# Altium integrated library Microchip Linear Devices.IntLib: 674 symbols (part 9 of 18)
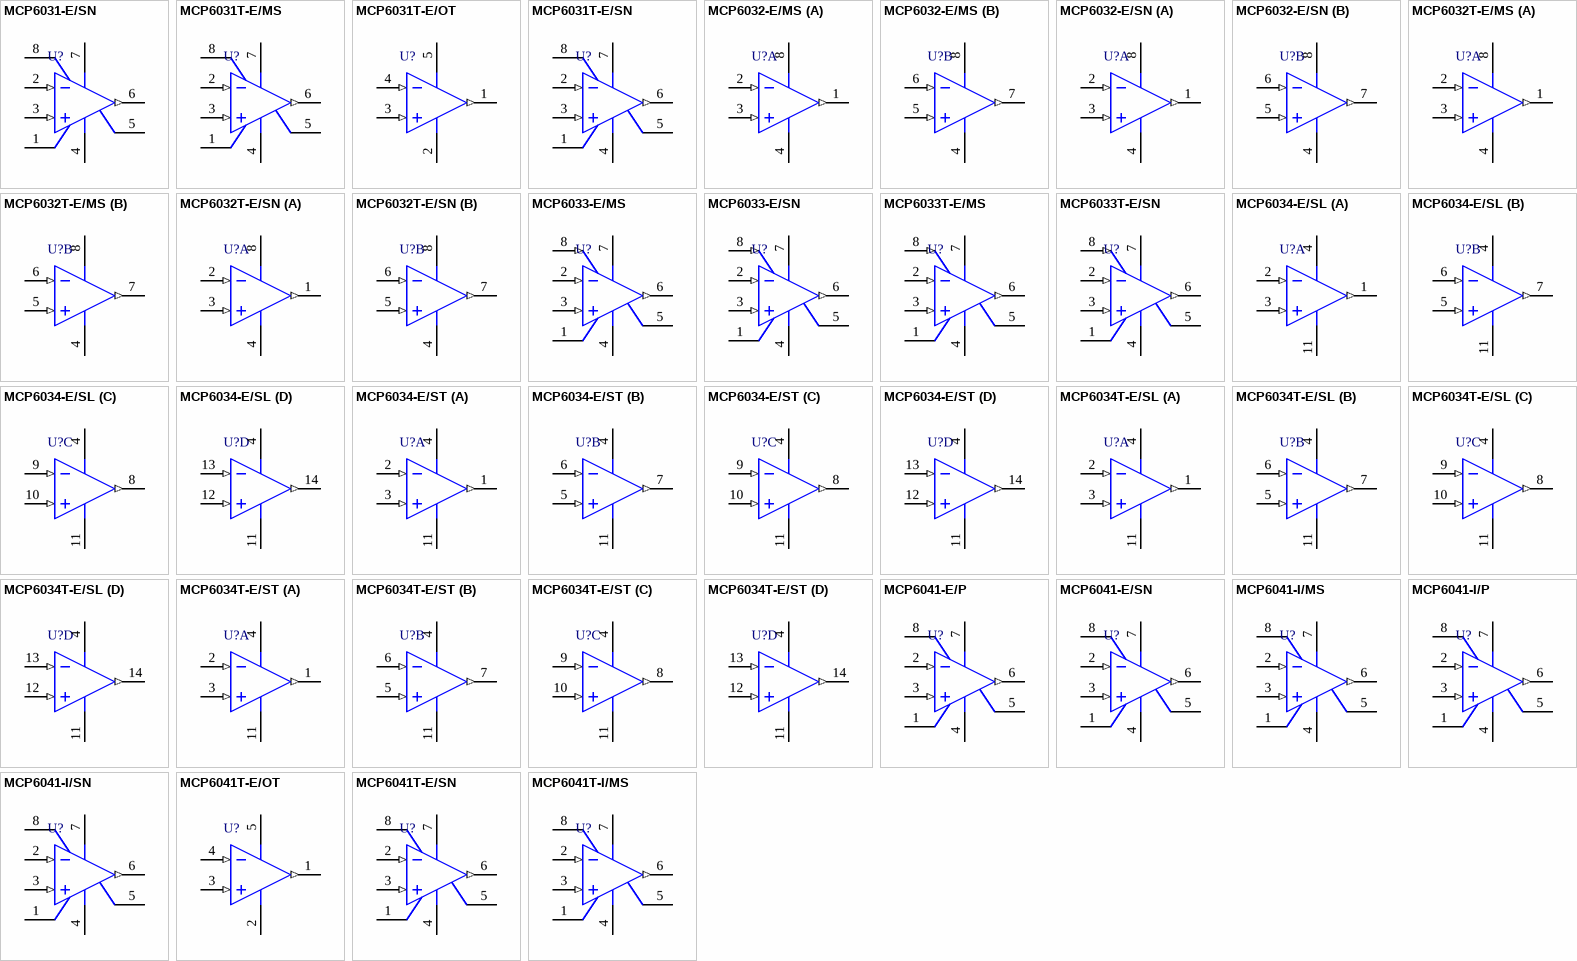
[diagram p39: symbols MCP6031-E/SN to MCP6041T-I/MS]

## MCP6041-I/P
designator U?
600 nA, Rail-to-Rail Input/Output Operational Amplifier, 8-Pin PDIP, Industrial Temperature; Published: 29-Jan-2009; DatasheetVersion: revC, Feb-2008; PackageVersion: revBB, Aug-2009; PackageReference: PDIP300-P8; Publisher: Altium Limited; PackageDescription: 8-Lead Plastic Dual In-Line (P) - 300 mil Body [PDIP]; Supplier 1: Digi-Key; Supplier Part Number 1: MCP6041-I/P-ND; Supplier 2: Farnell; Supplier Part Number 2: 9758682; Code_JEDEC: MS-001; ComponentLink1Description: Datasheet; ComponentLink1URL: http://ww1.microchip.com/downloads/en/DeviceDoc/21669c.pdf; ComponentLink2Description: Packaging Specification; ComponentLink2URL: http://www.microchip.com/stellent/groups/techpub_sg/documents/packagingspec/en012702.pdf; ComponentLink3Description: Microchip.com Home; ComponentLink3URL: http://www.microchip.com/
footprint PDIP300-P8 (DIP, 8-Leads, Row Spacing 7.62mm, Pitch 2.54mm, Body 9.5x6.6mm)
simulation model MCP6041 (SUBCKT)
pins: 1 NC, 2 VIN- (in), 3 VIN+ (in), 4 VSS (power), 5 NC, 6 VOUT (out), 7 VDD (power), 8 NC

## MCP6041-I/SN
designator U?
600 nA, Rail-to-Rail Input/Output Operational Amplifier, 8-Pin SOIC, Industrial Temperature; Published: 29-Jan-2009; DatasheetVersion: revC, Feb-2008; PackageVersion: revBB, Aug-2009; PackageReference: SOIC-SN8; Publisher: Altium Limited; PackageDescription: 8-Lead Plastic Small Outline (SN) - Narrow, 3.90mm Body [SOIC]; Supplier 1: Digi-Key; Supplier Part Number 1: MCP6041-I/SN-ND; Supplier 2: Farnell; Supplier Part Number 2: 1084311; Code_JEDEC: MS-012; Code_IPC: SOIC127P600-8; ComponentLink1Description: Datasheet; ComponentLink1URL: http://ww1.microchip.com/downloads/en/DeviceDoc/21669c.pdf; ComponentLink2Description: Packaging Specification; ComponentLink2URL: http://www.microchip.com/stellent/groups/techpub_sg/documents/packagingspec/en012702.pdf; ComponentLink3Description: Microchip.com Home; ComponentLink3URL: http://www.microchip.com/
footprint SOIC-SN8_N (SOIC, 8-Leads, Body 4.9x3.8mm, Pitch 1.27mm, IPC Medium Density)
footprint SOIC-SN8_L (SOIC, 8-Leads, Body 4.9x3.8mm, Pitch 1.27mm, IPC High Density)
footprint SOIC-SN8_M (SOIC, 8-Leads, Body 4.9x3.8mm, Pitch 1.27mm, IPC Low Density)
simulation model MCP6041 (SUBCKT)
pins: 1 NC, 2 VIN- (in), 3 VIN+ (in), 4 VSS (power), 5 NC, 6 VOUT (out), 7 VDD (power), 8 NC

## MCP6041T-E/OT
designator U?
600 nA, Rail-to-Rail Input/Output Operational Amplifier, 5-Pin SOT-23, Extended Temperature, Tape and Reel; Published: 29-Jan-2009; DatasheetVersion: revC, Feb-2008; PackageVersion: revBB, Aug-2009; PackageReference: SOT-23-OT5; Publisher: Altium Limited; PackageDescription: 5-Lead Plastic Small Outline Transistor (OT) [SOT-23]; Supplier 1: Digi-Key; Supplier Part Number 1: MCP6041T-E/OTTR-ND; Supplier 2: Digi-Key; Supplier Part Number 2: MCP6041T-E/OTCT-ND; Supplier 3: Digi-Key; Supplier Part Number 3: MCP6041T-E/OTDKR-ND; Code_IPC: SOT23-5; ComponentLink1Description: Datasheet; ComponentLink1URL: http://ww1.microchip.com/downloads/en/DeviceDoc/21669c.pdf; ComponentLink2Description: Packaging Specification; ComponentLink2URL: http://www.microchip.com/stellent/groups/techpub_sg/documents/packagingspec/en012702.pdf; ComponentLink3Description: Microchip.com Home; ComponentLink3URL: http://www.microchip.com/
footprint SOT-23-OT5_N (SOT23, 5-Leads, Body 2.9x1.6mm, Pitch 0.95mm, Lead Span 2.7mm, IPC Medium Density)
footprint SOT-23-OT5_L (SOT23, 5-Leads, Body 2.9x1.6mm, Pitch 0.95mm, Lead Span 2.7mm, IPC High Density)
footprint SOT-23-OT5_M (SOT23, 5-Leads, Body 2.9x1.6mm, Pitch 0.95mm, Lead Span 2.7mm, IPC Low Density)
simulation model MCP6041 (SUBCKT)
pins: 1 VOUT (out), 2 VSS (power), 3 VIN+ (in), 4 VIN- (in), 5 VDD (power)

## MCP6041T-E/SN
designator U?
600 nA, Rail-to-Rail Input/Output Operational Amplifier, 8-Pin SOIC, Extended Temperature, Tape and Reel; Published: 29-Jan-2009; DatasheetVersion: revC, Feb-2008; PackageVersion: revBB, Aug-2009; PackageReference: SOIC-SN8; Publisher: Altium Limited; PackageDescription: 8-Lead Plastic Small Outline (SN) - Narrow, 3.90mm Body [SOIC]; Supplier 1: Digi-Key; Supplier Part Number 1: MCP6041T-E/SN-ND; Code_JEDEC: MS-012; Code_IPC: SOIC127P600-8; ComponentLink1Description: Datasheet; ComponentLink1URL: http://ww1.microchip.com/downloads/en/DeviceDoc/21669c.pdf; ComponentLink2Description: Packaging Specification; ComponentLink2URL: http://www.microchip.com/stellent/groups/techpub_sg/documents/packagingspec/en012702.pdf; ComponentLink3Description: Microchip.com Home; ComponentLink3URL: http://www.microchip.com/
footprint SOIC-SN8_N (SOIC, 8-Leads, Body 4.9x3.8mm, Pitch 1.27mm, IPC Medium Density)
footprint SOIC-SN8_L (SOIC, 8-Leads, Body 4.9x3.8mm, Pitch 1.27mm, IPC High Density)
footprint SOIC-SN8_M (SOIC, 8-Leads, Body 4.9x3.8mm, Pitch 1.27mm, IPC Low Density)
simulation model MCP6041 (SUBCKT)
pins: 1 NC, 2 VIN- (in), 3 VIN+ (in), 4 VSS (power), 5 NC, 6 VOUT (out), 7 VDD (power), 8 NC

## MCP6041T-I/MS
designator U?
600 nA, Rail-to-Rail Input/Output Operational Amplifier, 8-Pin MSOP, Industrial Temperature, Tape and Reel; Published: 29-Jan-2009; DatasheetVersion: revC, Feb-2008; PackageVersion: revBB, Aug-2009; PackageReference: MSOP-MS8; Publisher: Altium Limited; PackageDescription: 8-Lead Plastic Micro Small Outline Package (MS) [MSOP]; Supplier 1: Digi-Key; Supplier Part Number 1: MCP6041T-I/MSTR-ND; Supplier 2: Digi-Key; Supplier Part Number 2: MCP6041T-I/MSCT-ND; Supplier 3: Digi-Key; Supplier Part Number 3: MCP6041T-I/MSDKR-ND; ComponentLink1Description: Datasheet; ComponentLink1URL: http://ww1.microchip.com/downloads/en/DeviceDoc/21669c.pdf; ComponentLink2Description: Packaging Specification; ComponentLink2URL: http://www.microchip.com/stellent/groups/techpub_sg/documents/packagingspec/en012702.pdf; ComponentLink3Description: Microchip.com Home; ComponentLink3URL: http://www.microchip.com/
footprint MSOP-MS8_N (TSOP, 8-Leads, Body 3x3mm, Pitch 0.65mm, IPC Medium Density)
footprint MSOP-MS8_L (TSOP, 8-Leads, Body 3x3mm, Pitch 0.65mm, IPC High Density)
footprint MSOP-MS8_M (TSOP, 8-Leads, Body 3x3mm, Pitch 0.65mm, IPC Low Density)
simulation model MCP6041 (SUBCKT)
pins: 1 NC, 2 VIN- (in), 3 VIN+ (in), 4 VSS (power), 5 NC, 6 VOUT (out), 7 VDD (power), 8 NC

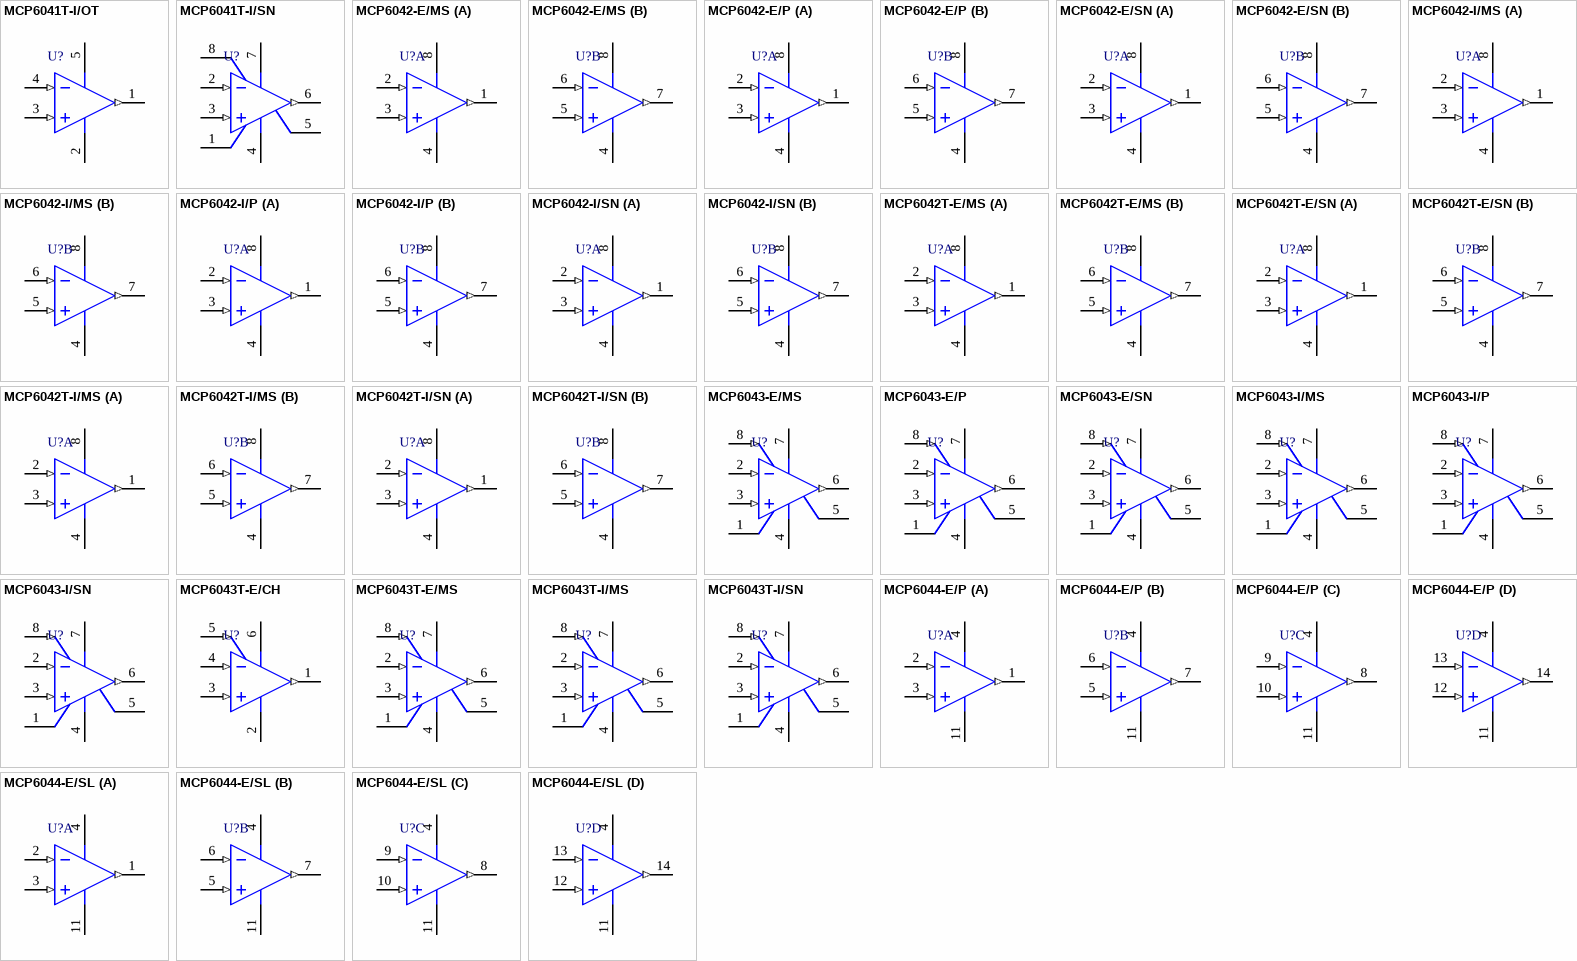
[diagram p14: symbols MCP6041T-I/OT to MCP6044-E/SL]

## MCP6041T-I/OT
designator U?
600 nA, Rail-to-Rail Input/Output Operational Amplifier, 5-Pin SOT-23, Industrial Temperature, Tape and Reel; Published: 29-Jan-2009; DatasheetVersion: revC, Feb-2008; PackageVersion: revBB, Aug-2009; PackageReference: SOT-23-OT5; Publisher: Altium Limited; PackageDescription: 5-Lead Plastic Small Outline Transistor (OT) [SOT-23]; Supplier 1: Digi-Key; Supplier Part Number 1: MCP6041T-I/OTTR-ND; Supplier 2: Digi-Key; Supplier Part Number 2: MCP6041T-I/OTCT-ND; Supplier 3: Digi-Key; Supplier Part Number 3: MCP6041T-I/OTDKR-ND; Supplier 4: Farnell; Supplier Part Number 4: 1332129; Code_IPC: SOT23-5; ComponentLink1Description: Datasheet; ComponentLink1URL: http://ww1.microchip.com/downloads/en/DeviceDoc/21669c.pdf; ComponentLink2Description: Packaging Specification; ComponentLink2URL: http://www.microchip.com/stellent/groups/techpub_sg/documents/packagingspec/en012702.pdf; ComponentLink3Description: Microchip.com Home; ComponentLink3URL: http://www.microchip.com/
footprint SOT-23-OT5_N (SOT23, 5-Leads, Body 2.9x1.6mm, Pitch 0.95mm, Lead Span 2.7mm, IPC Medium Density)
footprint SOT-23-OT5_L (SOT23, 5-Leads, Body 2.9x1.6mm, Pitch 0.95mm, Lead Span 2.7mm, IPC High Density)
footprint SOT-23-OT5_M (SOT23, 5-Leads, Body 2.9x1.6mm, Pitch 0.95mm, Lead Span 2.7mm, IPC Low Density)
simulation model MCP6041 (SUBCKT)
pins: 1 VOUT (out), 2 VSS (power), 3 VIN+ (in), 4 VIN- (in), 5 VDD (power)

## MCP6041T-I/SN
designator U?
600 nA, Rail-to-Rail Input/Output Operational Amplifier, 8-Pin SOIC, Industrial Temperature, Tape and Reel; Published: 29-Jan-2009; DatasheetVersion: revC, Feb-2008; PackageVersion: revBB, Aug-2009; PackageReference: SOIC-SN8; Publisher: Altium Limited; PackageDescription: 8-Lead Plastic Small Outline (SN) - Narrow, 3.90mm Body [SOIC]; Supplier 1: Digi-Key; Supplier Part Number 1: MCP6041T-I/SNTR-ND; Supplier 2: Digi-Key; Supplier Part Number 2: MCP6041T-I/SNCT-ND; Supplier 3: Digi-Key; Supplier Part Number 3: MCP6041T-I/SNDKR-ND; Code_JEDEC: MS-012; Code_IPC: SOIC127P600-8; ComponentLink1Description: Datasheet; ComponentLink1URL: http://ww1.microchip.com/downloads/en/DeviceDoc/21669c.pdf; ComponentLink2Description: Packaging Specification; ComponentLink2URL: http://www.microchip.com/stellent/groups/techpub_sg/documents/packagingspec/en012702.pdf; ComponentLink3Description: Microchip.com Home; ComponentLink3URL: http://www.microchip.com/
footprint SOIC-SN8_N (SOIC, 8-Leads, Body 4.9x3.8mm, Pitch 1.27mm, IPC Medium Density)
footprint SOIC-SN8_L (SOIC, 8-Leads, Body 4.9x3.8mm, Pitch 1.27mm, IPC High Density)
footprint SOIC-SN8_M (SOIC, 8-Leads, Body 4.9x3.8mm, Pitch 1.27mm, IPC Low Density)
simulation model MCP6041 (SUBCKT)
pins: 1 NC, 2 VIN- (in), 3 VIN+ (in), 4 VSS (power), 5 NC, 6 VOUT (out), 7 VDD (power), 8 NC

## MCP6042-E/MS
designator U?
600 nA, Rail-to-Rail Input/Output Operational Amplifier, 8-Pin MSOP, Extended Temperature; Published: 29-Jan-2009; DatasheetVersion: revC, Feb-2008; PackageVersion: revBB, Aug-2009; PackageReference: MSOP-MS8; Publisher: Altium Limited; PackageDescription: 8-Lead Plastic Micro Small Outline Package (MS) [MSOP]; Supplier 1: Digi-Key; Supplier Part Number 1: MCP6042-E/MS-ND; ComponentLink1Description: Datasheet; ComponentLink1URL: http://ww1.microchip.com/downloads/en/DeviceDoc/21669c.pdf; ComponentLink2Description: Packaging Specification; ComponentLink2URL: http://www.microchip.com/stellent/groups/techpub_sg/documents/packagingspec/en012702.pdf; ComponentLink3Description: Microchip.com Home; ComponentLink3URL: http://www.microchip.com/
footprint MSOP-MS8_N (TSOP, 8-Leads, Body 3x3mm, Pitch 0.65mm, IPC Medium Density)
footprint MSOP-MS8_L (TSOP, 8-Leads, Body 3x3mm, Pitch 0.65mm, IPC High Density)
footprint MSOP-MS8_M (TSOP, 8-Leads, Body 3x3mm, Pitch 0.65mm, IPC Low Density)
simulation model MCP6041 (SUBCKT)
pins on every part: 4 VSS (power), 8 VDD (power)
part A pins: 1 VOUTA (out), 2 VINA- (in), 3 VINA+ (in)
part B pins: 5 VINB+ (in), 6 VINB- (in), 7 VOUTB (out)

## MCP6042-E/P
designator U?
600 nA, Rail-to-Rail Input/Output Operational Amplifier, 8-Pin PDIP, Extended Temperature; Published: 29-Jan-2009; DatasheetVersion: revC, Feb-2008; PackageVersion: revBB, Aug-2009; PackageReference: PDIP300-P8; Publisher: Altium Limited; PackageDescription: 8-Lead Plastic Dual In-Line (P) - 300 mil Body [PDIP]; Supplier 1: Digi-Key; Supplier Part Number 1: MCP6042-E/P-ND; Code_JEDEC: MS-001; ComponentLink1Description: Datasheet; ComponentLink1URL: http://ww1.microchip.com/downloads/en/DeviceDoc/21669c.pdf; ComponentLink2Description: Packaging Specification; ComponentLink2URL: http://www.microchip.com/stellent/groups/techpub_sg/documents/packagingspec/en012702.pdf; ComponentLink3Description: Microchip.com Home; ComponentLink3URL: http://www.microchip.com/
footprint PDIP300-P8 (DIP, 8-Leads, Row Spacing 7.62mm, Pitch 2.54mm, Body 9.5x6.6mm)
simulation model MCP6041 (SUBCKT)
pins on every part: 4 VSS (power), 8 VDD (power)
part A pins: 1 VOUTA (out), 2 VINA- (in), 3 VINA+ (in)
part B pins: 5 VINB+ (in), 6 VINB- (in), 7 VOUTB (out)

## MCP6042-E/SN
designator U?
600 nA, Rail-to-Rail Input/Output Operational Amplifier, 8-Pin SOIC, Extended Temperature; Published: 29-Jan-2009; DatasheetVersion: revC, Feb-2008; PackageVersion: revBB, Aug-2009; PackageReference: SOIC-SN8; Publisher: Altium Limited; PackageDescription: 8-Lead Plastic Small Outline (SN) - Narrow, 3.90mm Body [SOIC]; Supplier 1: Digi-Key; Supplier Part Number 1: MCP6042-E/SN-ND; Code_JEDEC: MS-012; Code_IPC: SOIC127P600-8; ComponentLink1Description: Datasheet; ComponentLink1URL: http://ww1.microchip.com/downloads/en/DeviceDoc/21669c.pdf; ComponentLink2Description: Packaging Specification; ComponentLink2URL: http://www.microchip.com/stellent/groups/techpub_sg/documents/packagingspec/en012702.pdf; ComponentLink3Description: Microchip.com Home; ComponentLink3URL: http://www.microchip.com/
footprint SOIC-SN8_N (SOIC, 8-Leads, Body 4.9x3.8mm, Pitch 1.27mm, IPC Medium Density)
footprint SOIC-SN8_L (SOIC, 8-Leads, Body 4.9x3.8mm, Pitch 1.27mm, IPC High Density)
footprint SOIC-SN8_M (SOIC, 8-Leads, Body 4.9x3.8mm, Pitch 1.27mm, IPC Low Density)
simulation model MCP6041 (SUBCKT)
pins on every part: 4 VSS (power), 8 VDD (power)
part A pins: 1 VOUTA (out), 2 VINA- (in), 3 VINA+ (in)
part B pins: 5 VINB+ (in), 6 VINB- (in), 7 VOUTB (out)

## MCP6042-I/MS
designator U?
600 nA, Rail-to-Rail Input/Output Operational Amplifier, 8-Pin MSOP, Industrial Temperature; Published: 29-Jan-2009; DatasheetVersion: revC, Feb-2008; PackageVersion: revBB, Aug-2009; PackageReference: MSOP-MS8; Publisher: Altium Limited; PackageDescription: 8-Lead Plastic Micro Small Outline Package (MS) [MSOP]; Supplier 1: Digi-Key; Supplier Part Number 1: MCP6042-I/MS-ND; ComponentLink1Description: Datasheet; ComponentLink1URL: http://ww1.microchip.com/downloads/en/DeviceDoc/21669c.pdf; ComponentLink2Description: Packaging Specification; ComponentLink2URL: http://www.microchip.com/stellent/groups/techpub_sg/documents/packagingspec/en012702.pdf; ComponentLink3Description: Microchip.com Home; ComponentLink3URL: http://www.microchip.com/
footprint MSOP-MS8_N (TSOP, 8-Leads, Body 3x3mm, Pitch 0.65mm, IPC Medium Density)
footprint MSOP-MS8_L (TSOP, 8-Leads, Body 3x3mm, Pitch 0.65mm, IPC High Density)
footprint MSOP-MS8_M (TSOP, 8-Leads, Body 3x3mm, Pitch 0.65mm, IPC Low Density)
simulation model MCP6041 (SUBCKT)
pins on every part: 4 VSS (power), 8 VDD (power)
part A pins: 1 VOUTA (out), 2 VINA- (in), 3 VINA+ (in)
part B pins: 5 VINB+ (in), 6 VINB- (in), 7 VOUTB (out)

## MCP6042-I/P
designator U?
600 nA, Rail-to-Rail Input/Output Operational Amplifier, 8-Pin PDIP, Industrial Temperature; Published: 29-Jan-2009; DatasheetVersion: revC, Feb-2008; PackageVersion: revBB, Aug-2009; PackageReference: PDIP300-P8; Publisher: Altium Limited; PackageDescription: 8-Lead Plastic Dual In-Line (P) - 300 mil Body [PDIP]; Supplier 1: Digi-Key; Supplier Part Number 1: MCP6042-I/P-ND; Supplier 2: Farnell; Supplier Part Number 2: 1137327; Code_JEDEC: MS-001; ComponentLink1Description: Datasheet; ComponentLink1URL: http://ww1.microchip.com/downloads/en/DeviceDoc/21669c.pdf; ComponentLink2Description: Packaging Specification; ComponentLink2URL: http://www.microchip.com/stellent/groups/techpub_sg/documents/packagingspec/en012702.pdf; ComponentLink3Description: Microchip.com Home; ComponentLink3URL: http://www.microchip.com/
footprint PDIP300-P8 (DIP, 8-Leads, Row Spacing 7.62mm, Pitch 2.54mm, Body 9.5x6.6mm)
simulation model MCP6041 (SUBCKT)
pins on every part: 4 VSS (power), 8 VDD (power)
part A pins: 1 VOUTA (out), 2 VINA- (in), 3 VINA+ (in)
part B pins: 5 VINB+ (in), 6 VINB- (in), 7 VOUTB (out)

## MCP6042-I/SN
designator U?
600 nA, Rail-to-Rail Input/Output Operational Amplifier, 8-Pin SOIC, Industrial Temperature; Published: 29-Jan-2009; DatasheetVersion: revC, Feb-2008; PackageVersion: revBB, Aug-2009; PackageReference: SOIC-SN8; Publisher: Altium Limited; PackageDescription: 8-Lead Plastic Small Outline (SN) - Narrow, 3.90mm Body [SOIC]; Supplier 1: Digi-Key; Supplier Part Number 1: MCP6042-I/SN-ND; Supplier 2: Farnell; Supplier Part Number 2: 9758690; Code_JEDEC: MS-012; Code_IPC: SOIC127P600-8; ComponentLink1Description: Datasheet; ComponentLink1URL: http://ww1.microchip.com/downloads/en/DeviceDoc/21669c.pdf; ComponentLink2Description: Packaging Specification; ComponentLink2URL: http://www.microchip.com/stellent/groups/techpub_sg/documents/packagingspec/en012702.pdf; ComponentLink3Description: Microchip.com Home; ComponentLink3URL: http://www.microchip.com/
footprint SOIC-SN8_N (SOIC, 8-Leads, Body 4.9x3.8mm, Pitch 1.27mm, IPC Medium Density)
footprint SOIC-SN8_L (SOIC, 8-Leads, Body 4.9x3.8mm, Pitch 1.27mm, IPC High Density)
footprint SOIC-SN8_M (SOIC, 8-Leads, Body 4.9x3.8mm, Pitch 1.27mm, IPC Low Density)
simulation model MCP6041 (SUBCKT)
pins on every part: 4 VSS (power), 8 VDD (power)
part A pins: 1 VOUTA (out), 2 VINA- (in), 3 VINA+ (in)
part B pins: 5 VINB+ (in), 6 VINB- (in), 7 VOUTB (out)

## MCP6042T-E/MS
designator U?
600 nA, Rail-to-Rail Input/Output Operational Amplifier, 8-Pin MSOP, Extended Temperature, Tape and Reel; Published: 29-Jan-2009; DatasheetVersion: revC, Feb-2008; PackageVersion: revBB, Aug-2009; PackageReference: MSOP-MS8; Publisher: Altium Limited; PackageDescription: 8-Lead Plastic Micro Small Outline Package (MS) [MSOP]; Supplier 1: Digi-Key; Supplier Part Number 1: MCP6042T-E/MS-ND; ComponentLink1Description: Datasheet; ComponentLink1URL: http://ww1.microchip.com/downloads/en/DeviceDoc/21669c.pdf; ComponentLink2Description: Packaging Specification; ComponentLink2URL: http://www.microchip.com/stellent/groups/techpub_sg/documents/packagingspec/en012702.pdf; ComponentLink3Description: Microchip.com Home; ComponentLink3URL: http://www.microchip.com/
footprint MSOP-MS8_N (TSOP, 8-Leads, Body 3x3mm, Pitch 0.65mm, IPC Medium Density)
footprint MSOP-MS8_L (TSOP, 8-Leads, Body 3x3mm, Pitch 0.65mm, IPC High Density)
footprint MSOP-MS8_M (TSOP, 8-Leads, Body 3x3mm, Pitch 0.65mm, IPC Low Density)
simulation model MCP6041 (SUBCKT)
pins on every part: 4 VSS (power), 8 VDD (power)
part A pins: 1 VOUTA (out), 2 VINA- (in), 3 VINA+ (in)
part B pins: 5 VINB+ (in), 6 VINB- (in), 7 VOUTB (out)

## MCP6042T-E/SN
designator U?
600 nA, Rail-to-Rail Input/Output Operational Amplifier, 8-Pin SOIC, Extended Temperature, Tape and Reel; Published: 29-Jan-2009; DatasheetVersion: revC, Feb-2008; PackageVersion: revBB, Aug-2009; PackageReference: SOIC-SN8; Publisher: Altium Limited; PackageDescription: 8-Lead Plastic Small Outline (SN) - Narrow, 3.90mm Body [SOIC]; Supplier 1: Digi-Key; Supplier Part Number 1: MCP6042T-E/SN-ND; Code_JEDEC: MS-012; Code_IPC: SOIC127P600-8; ComponentLink1Description: Datasheet; ComponentLink1URL: http://ww1.microchip.com/downloads/en/DeviceDoc/21669c.pdf; ComponentLink2Description: Packaging Specification; ComponentLink2URL: http://www.microchip.com/stellent/groups/techpub_sg/documents/packagingspec/en012702.pdf; ComponentLink3Description: Microchip.com Home; ComponentLink3URL: http://www.microchip.com/
footprint SOIC-SN8_N (SOIC, 8-Leads, Body 4.9x3.8mm, Pitch 1.27mm, IPC Medium Density)
footprint SOIC-SN8_L (SOIC, 8-Leads, Body 4.9x3.8mm, Pitch 1.27mm, IPC High Density)
footprint SOIC-SN8_M (SOIC, 8-Leads, Body 4.9x3.8mm, Pitch 1.27mm, IPC Low Density)
simulation model MCP6041 (SUBCKT)
pins on every part: 4 VSS (power), 8 VDD (power)
part A pins: 1 VOUTA (out), 2 VINA- (in), 3 VINA+ (in)
part B pins: 5 VINB+ (in), 6 VINB- (in), 7 VOUTB (out)

## MCP6042T-I/MS
designator U?
600 nA, Rail-to-Rail Input/Output Operational Amplifier, 8-Pin MSOP, Industrial Temperature, Tape and Reel; Published: 29-Jan-2009; DatasheetVersion: revC, Feb-2008; PackageVersion: revBB, Aug-2009; PackageReference: MSOP-MS8; Publisher: Altium Limited; PackageDescription: 8-Lead Plastic Micro Small Outline Package (MS) [MSOP]; Supplier 1: Digi-Key; Supplier Part Number 1: MCP6042T-I/MSTR-ND; Supplier 2: Digi-Key; Supplier Part Number 2: MCP6042T-I/MSCT-ND; Supplier 3: Digi-Key; Supplier Part Number 3: MCP6042T-I/MSDKR-ND; ComponentLink1Description: Datasheet; ComponentLink1URL: http://ww1.microchip.com/downloads/en/DeviceDoc/21669c.pdf; ComponentLink2Description: Packaging Specification; ComponentLink2URL: http://www.microchip.com/stellent/groups/techpub_sg/documents/packagingspec/en012702.pdf; ComponentLink3Description: Microchip.com Home; ComponentLink3URL: http://www.microchip.com/
footprint MSOP-MS8_N (TSOP, 8-Leads, Body 3x3mm, Pitch 0.65mm, IPC Medium Density)
footprint MSOP-MS8_L (TSOP, 8-Leads, Body 3x3mm, Pitch 0.65mm, IPC High Density)
footprint MSOP-MS8_M (TSOP, 8-Leads, Body 3x3mm, Pitch 0.65mm, IPC Low Density)
simulation model MCP6041 (SUBCKT)
pins on every part: 4 VSS (power), 8 VDD (power)
part A pins: 1 VOUTA (out), 2 VINA- (in), 3 VINA+ (in)
part B pins: 5 VINB+ (in), 6 VINB- (in), 7 VOUTB (out)

## MCP6042T-I/SN
designator U?
600 nA, Rail-to-Rail Input/Output Operational Amplifier, 8-Pin SOIC, Industrial Temperature, Tape and Reel; Published: 29-Jan-2009; DatasheetVersion: revC, Feb-2008; PackageVersion: revBB, Aug-2009; PackageReference: SOIC-SN8; Publisher: Altium Limited; PackageDescription: 8-Lead Plastic Small Outline (SN) - Narrow, 3.90mm Body [SOIC]; Supplier 1: Digi-Key; Supplier Part Number 1: MCP6042T-I/SNTR-ND; Supplier 2: Digi-Key; Supplier Part Number 2: MCP6042T-I/SNCT-ND; Supplier 3: Digi-Key; Supplier Part Number 3: MCP6042T-I/SNDKR-ND; Code_JEDEC: MS-012; Code_IPC: SOIC127P600-8; ComponentLink1Description: Datasheet; ComponentLink1URL: http://ww1.microchip.com/downloads/en/DeviceDoc/21669c.pdf; ComponentLink2Description: Packaging Specification; ComponentLink2URL: http://www.microchip.com/stellent/groups/techpub_sg/documents/packagingspec/en012702.pdf; ComponentLink3Description: Microchip.com Home; ComponentLink3URL: http://www.microchip.com/
footprint SOIC-SN8_N (SOIC, 8-Leads, Body 4.9x3.8mm, Pitch 1.27mm, IPC Medium Density)
footprint SOIC-SN8_L (SOIC, 8-Leads, Body 4.9x3.8mm, Pitch 1.27mm, IPC High Density)
footprint SOIC-SN8_M (SOIC, 8-Leads, Body 4.9x3.8mm, Pitch 1.27mm, IPC Low Density)
simulation model MCP6041 (SUBCKT)
pins on every part: 4 VSS (power), 8 VDD (power)
part A pins: 1 VOUTA (out), 2 VINA- (in), 3 VINA+ (in)
part B pins: 5 VINB+ (in), 6 VINB- (in), 7 VOUTB (out)

## MCP6043-E/MS
designator U?
600 nA, Rail-to-Rail Input/Output Operational Amplifier, 8-Pin MSOP, Extended Temperature; Published: 29-Jan-2009; DatasheetVersion: revC, Feb-2008; PackageVersion: revBB, Aug-2009; PackageReference: MSOP-MS8; Publisher: Altium Limited; PackageDescription: 8-Lead Plastic Micro Small Outline Package (MS) [MSOP]; Supplier 1: Digi-Key; Supplier Part Number 1: MCP6043-E/MS-ND; ComponentLink1Description: Datasheet; ComponentLink1URL: http://ww1.microchip.com/downloads/en/DeviceDoc/21669c.pdf; ComponentLink2Description: Packaging Specification; ComponentLink2URL: http://www.microchip.com/stellent/groups/techpub_sg/documents/packagingspec/en012702.pdf; ComponentLink3Description: Microchip.com Home; ComponentLink3URL: http://www.microchip.com/
footprint MSOP-MS8_N (TSOP, 8-Leads, Body 3x3mm, Pitch 0.65mm, IPC Medium Density)
footprint MSOP-MS8_L (TSOP, 8-Leads, Body 3x3mm, Pitch 0.65mm, IPC High Density)
footprint MSOP-MS8_M (TSOP, 8-Leads, Body 3x3mm, Pitch 0.65mm, IPC Low Density)
simulation model MCP6041 (SUBCKT)
pins: 1 NC, 2 VIN- (in), 3 VIN+ (in), 4 VSS (power), 5 NC, 6 VOUT (out), 7 VDD (power), 8 ~{CS} (in)

## MCP6043-E/P
designator U?
600 nA, Rail-to-Rail Input/Output Operational Amplifier, 8-Pin PDIP, Extended Temperature; Published: 29-Jan-2009; DatasheetVersion: revC, Feb-2008; PackageVersion: revBB, Aug-2009; PackageReference: PDIP300-P8; Publisher: Altium Limited; PackageDescription: 8-Lead Plastic Dual In-Line (P) - 300 mil Body [PDIP]; Supplier 1: Digi-Key; Supplier Part Number 1: MCP6043-E/P-ND; Code_JEDEC: MS-001; ComponentLink1Description: Datasheet; ComponentLink1URL: http://ww1.microchip.com/downloads/en/DeviceDoc/21669c.pdf; ComponentLink2Description: Packaging Specification; ComponentLink2URL: http://www.microchip.com/stellent/groups/techpub_sg/documents/packagingspec/en012702.pdf; ComponentLink3Description: Microchip.com Home; ComponentLink3URL: http://www.microchip.com/
footprint PDIP300-P8 (DIP, 8-Leads, Row Spacing 7.62mm, Pitch 2.54mm, Body 9.5x6.6mm)
simulation model MCP6041 (SUBCKT)
pins: 1 NC, 2 VIN- (in), 3 VIN+ (in), 4 VSS (power), 5 NC, 6 VOUT (out), 7 VDD (power), 8 ~{CS} (in)

## MCP6043-E/SN
designator U?
600 nA, Rail-to-Rail Input/Output Operational Amplifier, 8-Pin SOIC, Extended Temperature; Published: 29-Jan-2009; DatasheetVersion: revC, Feb-2008; PackageVersion: revBB, Aug-2009; PackageReference: SOIC-SN8; Publisher: Altium Limited; PackageDescription: 8-Lead Plastic Small Outline (SN) - Narrow, 3.90mm Body [SOIC]; Supplier 1: Digi-Key; Supplier Part Number 1: MCP6043-E/SN-ND; Code_JEDEC: MS-012; Code_IPC: SOIC127P600-8; ComponentLink1Description: Datasheet; ComponentLink1URL: http://ww1.microchip.com/downloads/en/DeviceDoc/21669c.pdf; ComponentLink2Description: Packaging Specification; ComponentLink2URL: http://www.microchip.com/stellent/groups/techpub_sg/documents/packagingspec/en012702.pdf; ComponentLink3Description: Microchip.com Home; ComponentLink3URL: http://www.microchip.com/
footprint SOIC-SN8_N (SOIC, 8-Leads, Body 4.9x3.8mm, Pitch 1.27mm, IPC Medium Density)
footprint SOIC-SN8_L (SOIC, 8-Leads, Body 4.9x3.8mm, Pitch 1.27mm, IPC High Density)
footprint SOIC-SN8_M (SOIC, 8-Leads, Body 4.9x3.8mm, Pitch 1.27mm, IPC Low Density)
simulation model MCP6041 (SUBCKT)
pins: 1 NC, 2 VIN- (in), 3 VIN+ (in), 4 VSS (power), 5 NC, 6 VOUT (out), 7 VDD (power), 8 ~{CS} (in)

## MCP6043-I/MS
designator U?
600 nA, Rail-to-Rail Input/Output Operational Amplifier, 8-Pin MSOP, Industrial Temperature; Published: 29-Jan-2009; DatasheetVersion: revC, Feb-2008; PackageVersion: revBB, Aug-2009; PackageReference: MSOP-MS8; Publisher: Altium Limited; PackageDescription: 8-Lead Plastic Micro Small Outline Package (MS) [MSOP]; Supplier 1: Digi-Key; Supplier Part Number 1: MCP6043-I/MS-ND; ComponentLink1Description: Datasheet; ComponentLink1URL: http://ww1.microchip.com/downloads/en/DeviceDoc/21669c.pdf; ComponentLink2Description: Packaging Specification; ComponentLink2URL: http://www.microchip.com/stellent/groups/techpub_sg/documents/packagingspec/en012702.pdf; ComponentLink3Description: Microchip.com Home; ComponentLink3URL: http://www.microchip.com/
footprint MSOP-MS8_N (TSOP, 8-Leads, Body 3x3mm, Pitch 0.65mm, IPC Medium Density)
footprint MSOP-MS8_L (TSOP, 8-Leads, Body 3x3mm, Pitch 0.65mm, IPC High Density)
footprint MSOP-MS8_M (TSOP, 8-Leads, Body 3x3mm, Pitch 0.65mm, IPC Low Density)
simulation model MCP6041 (SUBCKT)
pins: 1 NC, 2 VIN- (in), 3 VIN+ (in), 4 VSS (power), 5 NC, 6 VOUT (out), 7 VDD (power), 8 ~{CS} (in)

## MCP6043-I/P
designator U?
600 nA, Rail-to-Rail Input/Output Operational Amplifier, 8-Pin PDIP, Industrial Temperature; Published: 29-Jan-2009; DatasheetVersion: revC, Feb-2008; PackageVersion: revBB, Aug-2009; PackageReference: PDIP300-P8; Publisher: Altium Limited; PackageDescription: 8-Lead Plastic Dual In-Line (P) - 300 mil Body [PDIP]; Supplier 1: Digi-Key; Supplier Part Number 1: MCP6043-I/P-ND; Supplier 2: Farnell; Supplier Part Number 2: 1439416; Code_JEDEC: MS-001; ComponentLink1Description: Datasheet; ComponentLink1URL: http://ww1.microchip.com/downloads/en/DeviceDoc/21669c.pdf; ComponentLink2Description: Packaging Specification; ComponentLink2URL: http://www.microchip.com/stellent/groups/techpub_sg/documents/packagingspec/en012702.pdf; ComponentLink3Description: Microchip.com Home; ComponentLink3URL: http://www.microchip.com/
footprint PDIP300-P8 (DIP, 8-Leads, Row Spacing 7.62mm, Pitch 2.54mm, Body 9.5x6.6mm)
simulation model MCP6041 (SUBCKT)
pins: 1 NC, 2 VIN- (in), 3 VIN+ (in), 4 VSS (power), 5 NC, 6 VOUT (out), 7 VDD (power), 8 ~{CS} (in)

## MCP6043-I/SN
designator U?
600 nA, Rail-to-Rail Input/Output Operational Amplifier, 8-Pin SOIC, Industrial Temperature; Published: 29-Jan-2009; DatasheetVersion: revC, Feb-2008; PackageVersion: revBB, Aug-2009; PackageReference: SOIC-SN8; Publisher: Altium Limited; PackageDescription: 8-Lead Plastic Small Outline (SN) - Narrow, 3.90mm Body [SOIC]; Supplier 1: Digi-Key; Supplier Part Number 1: MCP6043-I/SN-ND; Supplier 2: Farnell; Supplier Part Number 2: 1439417; Code_JEDEC: MS-012; Code_IPC: SOIC127P600-8; ComponentLink1Description: Datasheet; ComponentLink1URL: http://ww1.microchip.com/downloads/en/DeviceDoc/21669c.pdf; ComponentLink2Description: Packaging Specification; ComponentLink2URL: http://www.microchip.com/stellent/groups/techpub_sg/documents/packagingspec/en012702.pdf; ComponentLink3Description: Microchip.com Home; ComponentLink3URL: http://www.microchip.com/
footprint SOIC-SN8_N (SOIC, 8-Leads, Body 4.9x3.8mm, Pitch 1.27mm, IPC Medium Density)
footprint SOIC-SN8_L (SOIC, 8-Leads, Body 4.9x3.8mm, Pitch 1.27mm, IPC High Density)
footprint SOIC-SN8_M (SOIC, 8-Leads, Body 4.9x3.8mm, Pitch 1.27mm, IPC Low Density)
simulation model MCP6041 (SUBCKT)
pins: 1 NC, 2 VIN- (in), 3 VIN+ (in), 4 VSS (power), 5 NC, 6 VOUT (out), 7 VDD (power), 8 ~{CS} (in)

## MCP6043T-E/CH
designator U?
600 nA, Rail-to-Rail Input/Output Operational Amplifier, 6-Pin SOT-23, Extended Temperature, Tape and Reel; Published: 29-Jan-2009; DatasheetVersion: revC, Feb-2008; PackageVersion: revBB, Aug-2009; PackageReference: SOT-23-CH6; Publisher: Altium Limited; PackageDescription: 6-Lead Plastic Small Outline Transistor (CH) [SOT-23]; Supplier 1: Digi-Key; Supplier Part Number 1: MCP6043T-E/CH-ND; Code_IPC: SOT26A-6; ComponentLink1Description: Datasheet; ComponentLink1URL: http://ww1.microchip.com/downloads/en/DeviceDoc/21669c.pdf; ComponentLink2Description: Packaging Specification; ComponentLink2URL: http://www.microchip.com/stellent/groups/techpub_sg/documents/packagingspec/en012702.pdf; ComponentLink3Description: Microchip.com Home; ComponentLink3URL: http://www.microchip.com/
footprint SOT-23-CH6_N (SOT23, 6-Leads, Body 2.9x1.6mm, Pitch 0.95mm, Lead Span 2.7mm, IPC Medium Density)
footprint SOT-23-CH6_L (SOT23, 6-Leads, Body 2.9x1.6mm, Pitch 0.95mm, Lead Span 2.7mm, IPC High Density)
footprint SOT-23-CH6_M (SOT23, 6-Leads, Body 2.9x1.6mm, Pitch 0.95mm, Lead Span 2.7mm, IPC Low Density)
simulation model MCP6041 (SUBCKT)
pins: 1 VOUT (out), 2 VSS (power), 3 VIN+ (in), 4 VIN- (in), 5 ~{CS} (in), 6 VDD (power)

## MCP6043T-E/MS
designator U?
600 nA, Rail-to-Rail Input/Output Operational Amplifier, 8-Pin MSOP, Extended Temperature, Tape and Reel; Published: 29-Jan-2009; DatasheetVersion: revC, Feb-2008; PackageVersion: revBB, Aug-2009; PackageReference: MSOP-MS8; Publisher: Altium Limited; PackageDescription: 8-Lead Plastic Micro Small Outline Package (MS) [MSOP]; Supplier 1: Digi-Key; Supplier Part Number 1: MCP6043T-E/MS-ND; ComponentLink1Description: Datasheet; ComponentLink1URL: http://ww1.microchip.com/downloads/en/DeviceDoc/21669c.pdf; ComponentLink2Description: Packaging Specification; ComponentLink2URL: http://www.microchip.com/stellent/groups/techpub_sg/documents/packagingspec/en012702.pdf; ComponentLink3Description: Microchip.com Home; ComponentLink3URL: http://www.microchip.com/
footprint MSOP-MS8_N (TSOP, 8-Leads, Body 3x3mm, Pitch 0.65mm, IPC Medium Density)
footprint MSOP-MS8_L (TSOP, 8-Leads, Body 3x3mm, Pitch 0.65mm, IPC High Density)
footprint MSOP-MS8_M (TSOP, 8-Leads, Body 3x3mm, Pitch 0.65mm, IPC Low Density)
simulation model MCP6041 (SUBCKT)
pins: 1 NC, 2 VIN- (in), 3 VIN+ (in), 4 VSS (power), 5 NC, 6 VOUT (out), 7 VDD (power), 8 ~{CS} (in)

## MCP6043T-I/MS
designator U?
600 nA, Rail-to-Rail Input/Output Operational Amplifier, 8-Pin MSOP, Industrial Temperature, Tape and Reel; Published: 29-Jan-2009; DatasheetVersion: revC, Feb-2008; PackageVersion: revBB, Aug-2009; PackageReference: MSOP-MS8; Publisher: Altium Limited; PackageDescription: 8-Lead Plastic Micro Small Outline Package (MS) [MSOP]; Supplier 1: Digi-Key; Supplier Part Number 1: MCP6043T-I/MSTR-ND; Supplier 2: Digi-Key; Supplier Part Number 2: MCP6043T-I/MSCT-ND; Supplier 3: Digi-Key; Supplier Part Number 3: MCP6043T-I/MSDKR-ND; ComponentLink1Description: Datasheet; ComponentLink1URL: http://ww1.microchip.com/downloads/en/DeviceDoc/21669c.pdf; ComponentLink2Description: Packaging Specification; ComponentLink2URL: http://www.microchip.com/stellent/groups/techpub_sg/documents/packagingspec/en012702.pdf; ComponentLink3Description: Microchip.com Home; ComponentLink3URL: http://www.microchip.com/
footprint MSOP-MS8_N (TSOP, 8-Leads, Body 3x3mm, Pitch 0.65mm, IPC Medium Density)
footprint MSOP-MS8_L (TSOP, 8-Leads, Body 3x3mm, Pitch 0.65mm, IPC High Density)
footprint MSOP-MS8_M (TSOP, 8-Leads, Body 3x3mm, Pitch 0.65mm, IPC Low Density)
simulation model MCP6041 (SUBCKT)
pins: 1 NC, 2 VIN- (in), 3 VIN+ (in), 4 VSS (power), 5 NC, 6 VOUT (out), 7 VDD (power), 8 ~{CS} (in)

## MCP6043T-I/SN
designator U?
600 nA, Rail-to-Rail Input/Output Operational Amplifier, 8-Pin SOIC, Industrial Temperature, Tape and Reel; Published: 29-Jan-2009; DatasheetVersion: revC, Feb-2008; PackageVersion: revBB, Aug-2009; PackageReference: SOIC-SN8; Publisher: Altium Limited; PackageDescription: 8-Lead Plastic Small Outline (SN) - Narrow, 3.90mm Body [SOIC]; Supplier 1: Digi-Key; Supplier Part Number 1: MCP6043T-I/SNTR-ND; Supplier 2: Digi-Key; Supplier Part Number 2: MCP6043T-I/SNCT-ND; Supplier 3: Digi-Key; Supplier Part Number 3: MCP6043T-I/SNDKR-ND; Code_JEDEC: MS-012; Code_IPC: SOIC127P600-8; ComponentLink1Description: Datasheet; ComponentLink1URL: http://ww1.microchip.com/downloads/en/DeviceDoc/21669c.pdf; ComponentLink2Description: Packaging Specification; ComponentLink2URL: http://www.microchip.com/stellent/groups/techpub_sg/documents/packagingspec/en012702.pdf; ComponentLink3Description: Microchip.com Home; ComponentLink3URL: http://www.microchip.com/
footprint SOIC-SN8_N (SOIC, 8-Leads, Body 4.9x3.8mm, Pitch 1.27mm, IPC Medium Density)
footprint SOIC-SN8_L (SOIC, 8-Leads, Body 4.9x3.8mm, Pitch 1.27mm, IPC High Density)
footprint SOIC-SN8_M (SOIC, 8-Leads, Body 4.9x3.8mm, Pitch 1.27mm, IPC Low Density)
simulation model MCP6041 (SUBCKT)
pins: 1 NC, 2 VIN- (in), 3 VIN+ (in), 4 VSS (power), 5 NC, 6 VOUT (out), 7 VDD (power), 8 ~{CS} (in)

## MCP6044-E/P
designator U?
600 nA, Rail-to-Rail Input/Output Operational Amplifier, 14-Pin PDIP, Extended Temperature; Published: 29-Jan-2009; DatasheetVersion: revC, Feb-2008; PackageVersion: revBB, Aug-2009; PackageReference: PDIP300-P14; Publisher: Altium Limited; PackageDescription: 14-Lead Plastic Dual In-Line (P) - 300 mil Body [PDIP]; Supplier 1: Digi-Key; Supplier Part Number 1: MCP6044-E/P-ND; ComponentLink1Description: Datasheet; ComponentLink1URL: http://ww1.microchip.com/downloads/en/DeviceDoc/21669c.pdf; ComponentLink2Description: Packaging Specification; ComponentLink2URL: http://www.microchip.com/stellent/groups/techpub_sg/documents/packagingspec/en012702.pdf; ComponentLink3Description: Microchip.com Home; ComponentLink3URL: http://www.microchip.com/
footprint PDIP300-P14 (DIP, 14-Leads, Row Spacing 7.62mm, Pitch 2.54mm, Body 19.2x6.6mm)
simulation model MCP6041 (SUBCKT)
pins on every part: 4 VDD (power), 11 VSS (power)
part A pins: 1 VOUTA (out), 2 VINA- (in), 3 VINA+ (in)
part B pins: 5 VINB+ (in), 6 VINB- (in), 7 VOUTB (out)
part C pins: 8 VOUTC (out), 9 VINC- (in), 10 VINC+ (in)
part D pins: 12 VIND+ (in), 13 VIND- (in), 14 VOUTD (out)

## MCP6044-E/SL
designator U?
600 nA, Rail-to-Rail Input/Output Operational Amplifier, 14-Pin SOIC, Extended Temperature; Published: 29-Jan-2009; DatasheetVersion: revC, Feb-2008; PackageVersion: revBB, Aug-2009; PackageReference: SOIC-SL14; Publisher: Altium Limited; PackageDescription: 14-Lead Plastic Small Outline (SL) - Narrow, 3.90mm Body [SOIC]; Supplier 1: Digi-Key; Supplier Part Number 1: MCP6044-E/SL-ND; Code_JEDEC: MS-012-AB; Code_IPC: SOIC127P600-14; ComponentLink1Description: Datasheet; ComponentLink1URL: http://ww1.microchip.com/downloads/en/DeviceDoc/21669c.pdf; ComponentLink2Description: Packaging Specification; ComponentLink2URL: http://www.microchip.com/stellent/groups/techpub_sg/documents/packagingspec/en012702.pdf; ComponentLink3Description: Microchip.com Home; ComponentLink3URL: http://www.microchip.com/
footprint SOIC-SL14_N (SOIC, 14-Leads, Body 8.7x3.9mm, Pitch 1.27mm, IPC Medium Density)
footprint SOIC-SL14_L (SOIC, 14-Leads, Body 8.7x3.9mm, Pitch 1.27mm, IPC High Density)
footprint SOIC-SL14_M (SOIC, 14-Leads, Body 8.7x3.9mm, Pitch 1.27mm, IPC Low Density)
simulation model MCP6041 (SUBCKT)
pins on every part: 4 VDD (power), 11 VSS (power)
part A pins: 1 VOUTA (out), 2 VINA- (in), 3 VINA+ (in)
part B pins: 5 VINB+ (in), 6 VINB- (in), 7 VOUTB (out)
part C pins: 8 VOUTC (out), 9 VINC- (in), 10 VINC+ (in)
part D pins: 12 VIND+ (in), 13 VIND- (in), 14 VOUTD (out)

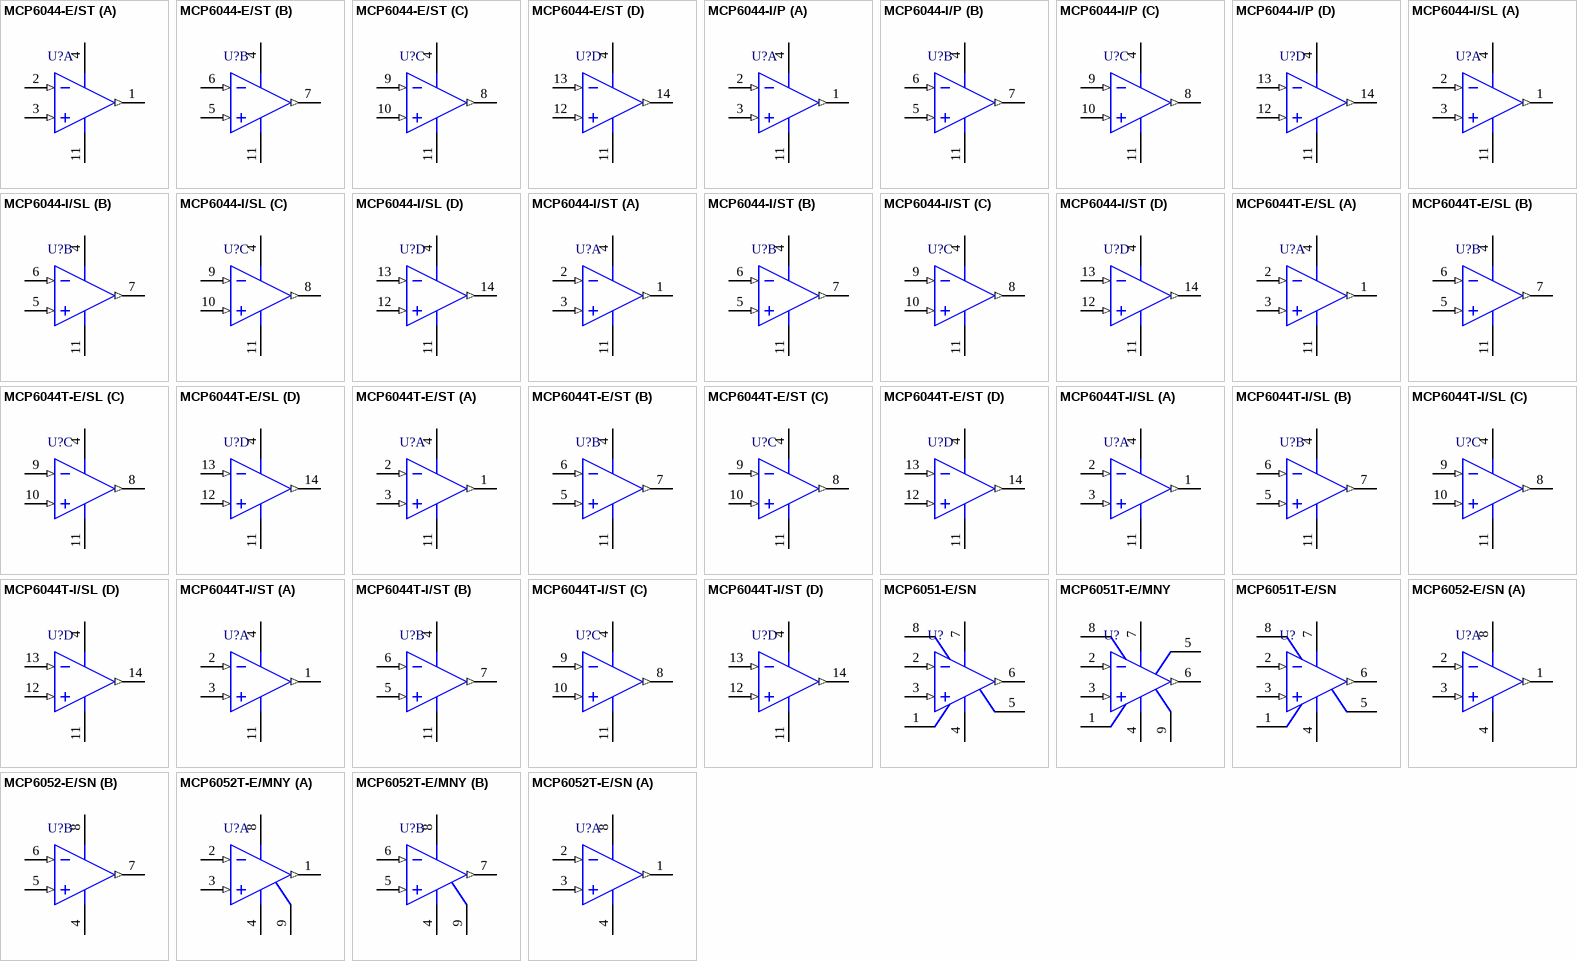
[diagram p15: symbols MCP6044-E/ST to MCP6052T-E/SN]

## MCP6044-E/ST
designator U?
600 nA, Rail-to-Rail Input/Output Operational Amplifier, 14-Pin TSSOP, Extended Temperature; Published: 29-Jan-2009; DatasheetVersion: revC, Feb-2008; PackageVersion: revBB, Aug-2009; PackageReference: TSSOP-ST14; Publisher: Altium Limited; PackageDescription: 14-Lead Plastic Thin Shrink Small Outline (ST) - 4.4mm Body [TSSOP]; Supplier 1: Digi-Key; Supplier Part Number 1: MCP6044-E/ST-ND; ComponentLink1Description: Datasheet; ComponentLink1URL: http://ww1.microchip.com/downloads/en/DeviceDoc/21669c.pdf; ComponentLink2Description: Packaging Specification; ComponentLink2URL: http://www.microchip.com/stellent/groups/techpub_sg/documents/packagingspec/en012702.pdf; ComponentLink3Description: Microchip.com Home; ComponentLink3URL: http://www.microchip.com/
footprint TSSOP-ST14_N (TSOP, 14-Leads, Body 5x4.4mm, Pitch 0.65mm, IPC Medium Density)
footprint TSSOP-ST14_L (TSOP, 14-Leads, Body 5x4.4mm, Pitch 0.65mm, IPC High Density)
footprint TSSOP-ST14_M (TSOP, 14-Leads, Body 5x4.4mm, Pitch 0.65mm, IPC Low Density)
simulation model MCP6041 (SUBCKT)
pins on every part: 4 VDD (power), 11 VSS (power)
part A pins: 1 VOUTA (out), 2 VINA- (in), 3 VINA+ (in)
part B pins: 5 VINB+ (in), 6 VINB- (in), 7 VOUTB (out)
part C pins: 8 VOUTC (out), 9 VINC- (in), 10 VINC+ (in)
part D pins: 12 VIND+ (in), 13 VIND- (in), 14 VOUTD (out)

## MCP6044-I/P
designator U?
600 nA, Rail-to-Rail Input/Output Operational Amplifier, 14-Pin PDIP, Industrial Temperature; Published: 29-Jan-2009; DatasheetVersion: revC, Feb-2008; PackageVersion: revBB, Aug-2009; PackageReference: PDIP300-P14; Publisher: Altium Limited; PackageDescription: 14-Lead Plastic Dual In-Line (P) - 300 mil Body [PDIP]; Supplier 1: Digi-Key; Supplier Part Number 1: MCP6044-I/P-ND; Supplier 2: Farnell; Supplier Part Number 2: 1084312; ComponentLink1Description: Datasheet; ComponentLink1URL: http://ww1.microchip.com/downloads/en/DeviceDoc/21669c.pdf; ComponentLink2Description: Packaging Specification; ComponentLink2URL: http://www.microchip.com/stellent/groups/techpub_sg/documents/packagingspec/en012702.pdf; ComponentLink3Description: Microchip.com Home; ComponentLink3URL: http://www.microchip.com/
footprint PDIP300-P14 (DIP, 14-Leads, Row Spacing 7.62mm, Pitch 2.54mm, Body 19.2x6.6mm)
simulation model MCP6041 (SUBCKT)
pins on every part: 4 VDD (power), 11 VSS (power)
part A pins: 1 VOUTA (out), 2 VINA- (in), 3 VINA+ (in)
part B pins: 5 VINB+ (in), 6 VINB- (in), 7 VOUTB (out)
part C pins: 8 VOUTC (out), 9 VINC- (in), 10 VINC+ (in)
part D pins: 12 VIND+ (in), 13 VIND- (in), 14 VOUTD (out)

## MCP6044-I/SL
designator U?
600 nA, Rail-to-Rail Input/Output Operational Amplifier, 14-Pin SOIC, Industrial Temperature; Published: 29-Jan-2009; DatasheetVersion: revC, Feb-2008; PackageVersion: revBB, Aug-2009; PackageReference: SOIC-SL14; Publisher: Altium Limited; PackageDescription: 14-Lead Plastic Small Outline (SL) - Narrow, 3.90mm Body [SOIC]; Supplier 1: Digi-Key; Supplier Part Number 1: MCP6044-I/SL-ND; Supplier 2: Farnell; Supplier Part Number 2: 9758704; Code_JEDEC: MS-012-AB; Code_IPC: SOIC127P600-14; ComponentLink1Description: Datasheet; ComponentLink1URL: http://ww1.microchip.com/downloads/en/DeviceDoc/21669c.pdf; ComponentLink2Description: Packaging Specification; ComponentLink2URL: http://www.microchip.com/stellent/groups/techpub_sg/documents/packagingspec/en012702.pdf; ComponentLink3Description: Microchip.com Home; ComponentLink3URL: http://www.microchip.com/
footprint SOIC-SL14_N (SOIC, 14-Leads, Body 8.7x3.9mm, Pitch 1.27mm, IPC Medium Density)
footprint SOIC-SL14_L (SOIC, 14-Leads, Body 8.7x3.9mm, Pitch 1.27mm, IPC High Density)
footprint SOIC-SL14_M (SOIC, 14-Leads, Body 8.7x3.9mm, Pitch 1.27mm, IPC Low Density)
simulation model MCP6041 (SUBCKT)
pins on every part: 4 VDD (power), 11 VSS (power)
part A pins: 1 VOUTA (out), 2 VINA- (in), 3 VINA+ (in)
part B pins: 5 VINB+ (in), 6 VINB- (in), 7 VOUTB (out)
part C pins: 8 VOUTC (out), 9 VINC- (in), 10 VINC+ (in)
part D pins: 12 VIND+ (in), 13 VIND- (in), 14 VOUTD (out)

## MCP6044-I/ST
designator U?
600 nA, Rail-to-Rail Input/Output Operational Amplifier, 14-Pin TSSOP, Industrial Temperature; Published: 29-Jan-2009; DatasheetVersion: revC, Feb-2008; PackageVersion: revBB, Aug-2009; PackageReference: TSSOP-ST14; Publisher: Altium Limited; PackageDescription: 14-Lead Plastic Thin Shrink Small Outline (ST) - 4.4mm Body [TSSOP]; Supplier 1: Digi-Key; Supplier Part Number 1: MCP6044-I/ST-ND; ComponentLink1Description: Datasheet; ComponentLink1URL: http://ww1.microchip.com/downloads/en/DeviceDoc/21669c.pdf; ComponentLink2Description: Packaging Specification; ComponentLink2URL: http://www.microchip.com/stellent/groups/techpub_sg/documents/packagingspec/en012702.pdf; ComponentLink3Description: Microchip.com Home; ComponentLink3URL: http://www.microchip.com/
footprint TSSOP-ST14_N (TSOP, 14-Leads, Body 5x4.4mm, Pitch 0.65mm, IPC Medium Density)
footprint TSSOP-ST14_L (TSOP, 14-Leads, Body 5x4.4mm, Pitch 0.65mm, IPC High Density)
footprint TSSOP-ST14_M (TSOP, 14-Leads, Body 5x4.4mm, Pitch 0.65mm, IPC Low Density)
simulation model MCP6041 (SUBCKT)
pins on every part: 4 VDD (power), 11 VSS (power)
part A pins: 1 VOUTA (out), 2 VINA- (in), 3 VINA+ (in)
part B pins: 5 VINB+ (in), 6 VINB- (in), 7 VOUTB (out)
part C pins: 8 VOUTC (out), 9 VINC- (in), 10 VINC+ (in)
part D pins: 12 VIND+ (in), 13 VIND- (in), 14 VOUTD (out)

## MCP6044T-E/SL
designator U?
600 nA, Rail-to-Rail Input/Output Operational Amplifier, 14-Pin SOIC, Extended Temperature, Tape and Reel; Published: 29-Jan-2009; DatasheetVersion: revC, Feb-2008; PackageVersion: revBB, Aug-2009; PackageReference: SOIC-SL14; Publisher: Altium Limited; PackageDescription: 14-Lead Plastic Small Outline (SL) - Narrow, 3.90mm Body [SOIC]; Supplier 1: Digi-Key; Supplier Part Number 1: MCP6044T-E/SL-ND; Code_JEDEC: MS-012-AB; Code_IPC: SOIC127P600-14; ComponentLink1Description: Datasheet; ComponentLink1URL: http://ww1.microchip.com/downloads/en/DeviceDoc/21669c.pdf; ComponentLink2Description: Packaging Specification; ComponentLink2URL: http://www.microchip.com/stellent/groups/techpub_sg/documents/packagingspec/en012702.pdf; ComponentLink3Description: Microchip.com Home; ComponentLink3URL: http://www.microchip.com/
footprint SOIC-SL14_N (SOIC, 14-Leads, Body 8.7x3.9mm, Pitch 1.27mm, IPC Medium Density)
footprint SOIC-SL14_L (SOIC, 14-Leads, Body 8.7x3.9mm, Pitch 1.27mm, IPC High Density)
footprint SOIC-SL14_M (SOIC, 14-Leads, Body 8.7x3.9mm, Pitch 1.27mm, IPC Low Density)
simulation model MCP6041 (SUBCKT)
pins on every part: 4 VDD (power), 11 VSS (power)
part A pins: 1 VOUTA (out), 2 VINA- (in), 3 VINA+ (in)
part B pins: 5 VINB+ (in), 6 VINB- (in), 7 VOUTB (out)
part C pins: 8 VOUTC (out), 9 VINC- (in), 10 VINC+ (in)
part D pins: 12 VIND+ (in), 13 VIND- (in), 14 VOUTD (out)

## MCP6044T-E/ST
designator U?
600 nA, Rail-to-Rail Input/Output Operational Amplifier, 14-Pin TSSOP, Extended Temperature, Tape and Reel; Published: 29-Jan-2009; DatasheetVersion: revC, Feb-2008; PackageVersion: revBB, Aug-2009; PackageReference: TSSOP-ST14; Publisher: Altium Limited; PackageDescription: 14-Lead Plastic Thin Shrink Small Outline (ST) - 4.4mm Body [TSSOP]; Supplier 1: Digi-Key; Supplier Part Number 1: MCP6044T-E/ST-ND; ComponentLink1Description: Datasheet; ComponentLink1URL: http://ww1.microchip.com/downloads/en/DeviceDoc/21669c.pdf; ComponentLink2Description: Packaging Specification; ComponentLink2URL: http://www.microchip.com/stellent/groups/techpub_sg/documents/packagingspec/en012702.pdf; ComponentLink3Description: Microchip.com Home; ComponentLink3URL: http://www.microchip.com/
footprint TSSOP-ST14_N (TSOP, 14-Leads, Body 5x4.4mm, Pitch 0.65mm, IPC Medium Density)
footprint TSSOP-ST14_L (TSOP, 14-Leads, Body 5x4.4mm, Pitch 0.65mm, IPC High Density)
footprint TSSOP-ST14_M (TSOP, 14-Leads, Body 5x4.4mm, Pitch 0.65mm, IPC Low Density)
simulation model MCP6041 (SUBCKT)
pins on every part: 4 VDD (power), 11 VSS (power)
part A pins: 1 VOUTA (out), 2 VINA- (in), 3 VINA+ (in)
part B pins: 5 VINB+ (in), 6 VINB- (in), 7 VOUTB (out)
part C pins: 8 VOUTC (out), 9 VINC- (in), 10 VINC+ (in)
part D pins: 12 VIND+ (in), 13 VIND- (in), 14 VOUTD (out)

## MCP6044T-I/SL
designator U?
600 nA, Rail-to-Rail Input/Output Operational Amplifier, 14-Pin SOIC, Industrial Temperature, Tape and Reel; Published: 29-Jan-2009; DatasheetVersion: revC, Feb-2008; PackageVersion: revBB, Aug-2009; PackageReference: SOIC-SL14; Publisher: Altium Limited; PackageDescription: 14-Lead Plastic Small Outline (SL) - Narrow, 3.90mm Body [SOIC]; Supplier 1: Digi-Key; Supplier Part Number 1: MCP6044T-I/SLTR-ND; Supplier 2: Digi-Key; Supplier Part Number 2: MCP6044T-I/SLCT-ND; Supplier 3: Digi-Key; Supplier Part Number 3: MCP6044T-I/SLDKR-ND; Code_JEDEC: MS-012-AB; Code_IPC: SOIC127P600-14; ComponentLink1Description: Datasheet; ComponentLink1URL: http://ww1.microchip.com/downloads/en/DeviceDoc/21669c.pdf; ComponentLink2Description: Packaging Specification; ComponentLink2URL: http://www.microchip.com/stellent/groups/techpub_sg/documents/packagingspec/en012702.pdf; ComponentLink3Description: Microchip.com Home; ComponentLink3URL: http://www.microchip.com/
footprint SOIC-SL14_N (SOIC, 14-Leads, Body 8.7x3.9mm, Pitch 1.27mm, IPC Medium Density)
footprint SOIC-SL14_L (SOIC, 14-Leads, Body 8.7x3.9mm, Pitch 1.27mm, IPC High Density)
footprint SOIC-SL14_M (SOIC, 14-Leads, Body 8.7x3.9mm, Pitch 1.27mm, IPC Low Density)
simulation model MCP6041 (SUBCKT)
pins on every part: 4 VDD (power), 11 VSS (power)
part A pins: 1 VOUTA (out), 2 VINA- (in), 3 VINA+ (in)
part B pins: 5 VINB+ (in), 6 VINB- (in), 7 VOUTB (out)
part C pins: 8 VOUTC (out), 9 VINC- (in), 10 VINC+ (in)
part D pins: 12 VIND+ (in), 13 VIND- (in), 14 VOUTD (out)

## MCP6044T-I/ST
designator U?
600 nA, Rail-to-Rail Input/Output Operational Amplifier, 14-Pin TSSOP, Industrial Temperature, Tape and Reel; Published: 29-Jan-2009; DatasheetVersion: revC, Feb-2008; PackageVersion: revBB, Aug-2009; PackageReference: TSSOP-ST14; Publisher: Altium Limited; PackageDescription: 14-Lead Plastic Thin Shrink Small Outline (ST) - 4.4mm Body [TSSOP]; Supplier 1: Digi-Key; Supplier Part Number 1: MCP6044T-I/STTR-ND; Supplier 2: Digi-Key; Supplier Part Number 2: MCP6044T-I/STCT-ND; Supplier 3: Digi-Key; Supplier Part Number 3: MCP6044T-I/STDKR-ND; ComponentLink1Description: Datasheet; ComponentLink1URL: http://ww1.microchip.com/downloads/en/DeviceDoc/21669c.pdf; ComponentLink2Description: Packaging Specification; ComponentLink2URL: http://www.microchip.com/stellent/groups/techpub_sg/documents/packagingspec/en012702.pdf; ComponentLink3Description: Microchip.com Home; ComponentLink3URL: http://www.microchip.com/
footprint TSSOP-ST14_N (TSOP, 14-Leads, Body 5x4.4mm, Pitch 0.65mm, IPC Medium Density)
footprint TSSOP-ST14_L (TSOP, 14-Leads, Body 5x4.4mm, Pitch 0.65mm, IPC High Density)
footprint TSSOP-ST14_M (TSOP, 14-Leads, Body 5x4.4mm, Pitch 0.65mm, IPC Low Density)
simulation model MCP6041 (SUBCKT)
pins on every part: 4 VDD (power), 11 VSS (power)
part A pins: 1 VOUTA (out), 2 VINA- (in), 3 VINA+ (in)
part B pins: 5 VINB+ (in), 6 VINB- (in), 7 VOUTB (out)
part C pins: 8 VOUTC (out), 9 VINC- (in), 10 VINC+ (in)
part D pins: 12 VIND+ (in), 13 VIND- (in), 14 VOUTD (out)

## MCP6051-E/SN
designator U?
30 µA, High Precision Op Amp, 8-Pin SOIC, Extended Temperature; Published: 2-Dec-2009; DatasheetVersion: revA, May-2009; PackageVersion: revBB, Aug-2009; PackageReference: SOIC-SN8; Publisher: Altium Limited; PackageDescription: 8-Lead Plastic Small Outline (SN) - Narrow, 3.90mm Body [SOIC]; Supplier 1: Digi-Key; Supplier Part Number 1: MCP6051-E/SN-ND; Supplier 2: Farnell; Supplier Part Number 2: 1715853; Code_JEDEC: MS-012; Code_IPC: SOIC127P600-8; ComponentLink1Description: Datasheet; ComponentLink1URL: http://ww1.microchip.com/downloads/en/DeviceDoc/22182a.pdf; ComponentLink2Description: Packaging Specification; ComponentLink2URL: http://www.microchip.com/stellent/groups/techpub_sg/documents/packagingspec/en012702.pdf; ComponentLink3Description: Microchip.com Home; ComponentLink3URL: http://www.microchip.com/
footprint SOIC-SN8_N (SOIC, 8-Leads, Body 4.9x3.8mm, Pitch 1.27mm, IPC Medium Density)
footprint SOIC-SN8_L (SOIC, 8-Leads, Body 4.9x3.8mm, Pitch 1.27mm, IPC High Density)
footprint SOIC-SN8_M (SOIC, 8-Leads, Body 4.9x3.8mm, Pitch 1.27mm, IPC Low Density)
simulation model MCP6051 (SUBCKT)
pins: 1 NC, 2 VIN- (in), 3 VIN+ (in), 4 VSS (power), 5 NC, 6 VOUT (out), 7 VDD (power), 8 NC